# Altium schematic symbol library Analog_ADC.SchLib: 173 symbols (part 3 of 3)
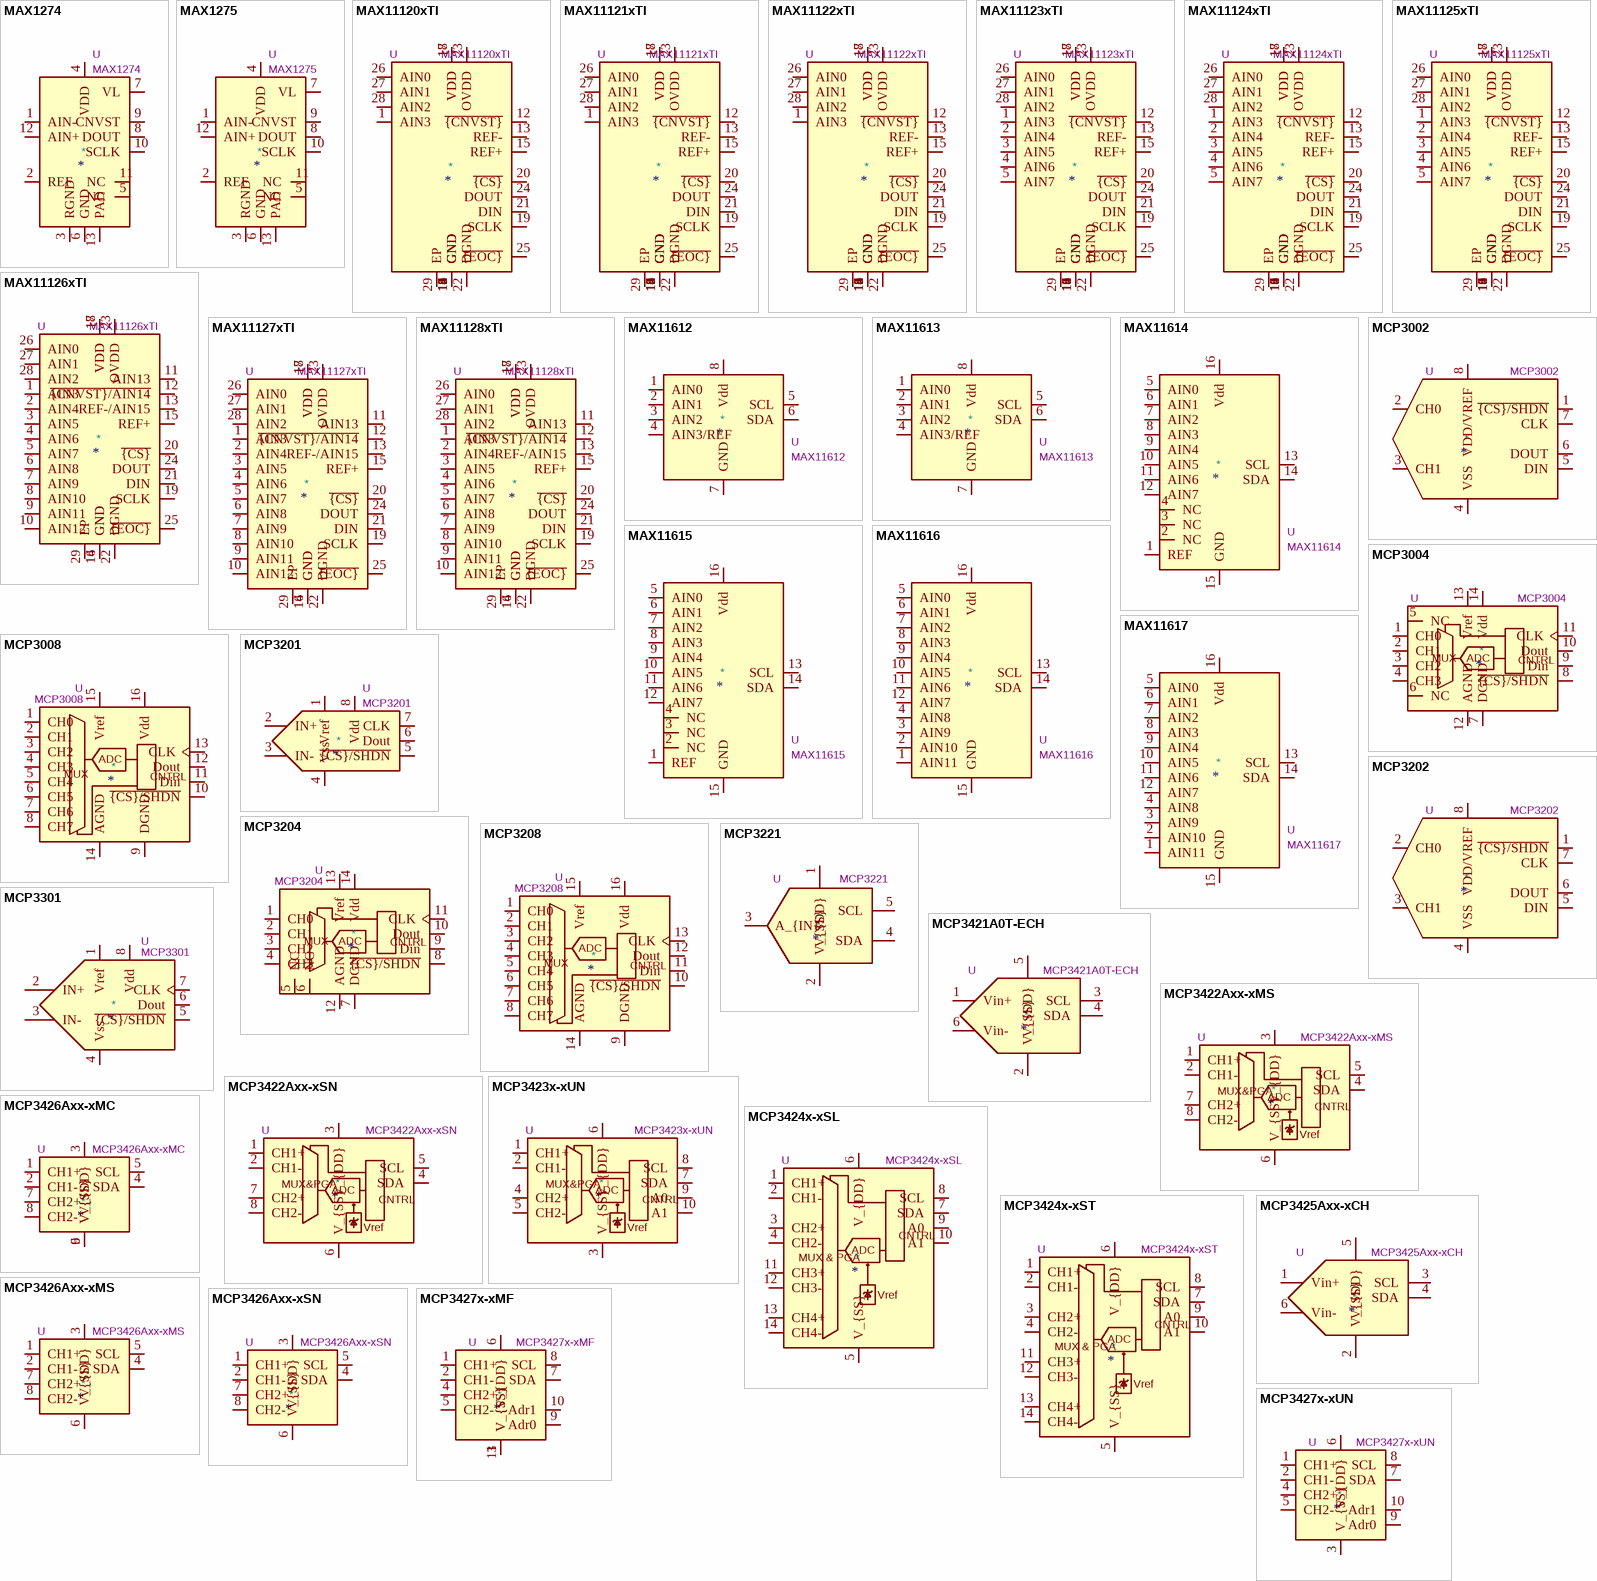
[diagram p9: symbols MAX1274 to MCP3427x-xUN]

## MCP3202
designator *  value MCP3202  Reference: U
A/D Converter, 12-Bit, 2-Channel, SPI Interface, 2.7V-5.5V; ki_keywords: 12bit ADC Reference Single Supply SPI 2ch; ki_fp_filters: DIP*W7.62mm** SOIC*3.9x4.9mm*P1.27mm* TSSOP*3x3mm*P0.65mm* MSOP*3x3mm*P0.65mm*; Datasheet: http://ww1.microchip.com/downloads/en/DeviceDoc/21034D.pdf; Description_: A/D Converter, 12-Bit, 2-Channel, SPI Interface, 2.7V-5.5V
pins: 1 ~{{CS}/SHDN}, 2 CH0, 3 CH1, 4 VSS, 5 DIN, 6 DOUT, 7 CLK, 8 VDD/VREF

## MCP3204
designator *  value MCP3204  Reference: U
A/D Converter, 12-Bit, 4-Channel, SPI Interface, 2.7V-5.5V; ki_keywords: 12bit ADC Reference Single Supply SPI 4ch; ki_fp_filters: SOIC*3.9x8.7mm*P1.27mm* DIP*W7.62mm* TSSOP*4.4x5mm*P0.65mm*; Datasheet: http://ww1.microchip.com/downloads/en/DeviceDoc/21298c.pdf; Description_: A/D Converter, 12-Bit, 4-Channel, SPI Interface, 2.7V-5.5V
pins: 1 CH0, 2 CH1, 3 CH2, 4 CH3, 5 NC, 6 NC, 7 DGND, 8 ~{{CS}/SHDN}, 9 Din, 10 Dout, 11 CLK, 12 AGND, 13 Vref, 14 Vdd
text: MUX; ADC; CNTRL

## MCP3208
designator *  value MCP3208  Reference: U
A/D Converter, 12-Bit, 8-Channel, SPI Interface , 2.7V-5.5V; ki_keywords: 12bit ADC Reference Single Supply SPI 8ch; ki_fp_filters: DIP*W7.62mm* SOIC*3.9x9.9mm*P1.27mm*; Datasheet: http://ww1.microchip.com/downloads/en/DeviceDoc/21298c.pdf; Description_: A/D Converter, 12-Bit, 8-Channel, SPI Interface , 2.7V-5.5V
pins: 1 CH0, 2 CH1, 3 CH2, 4 CH3, 5 CH4, 6 CH5, 7 CH6, 8 CH7, 9 DGND, 10 ~{{CS}/SHDN}, 11 Din, 12 Dout, 13 CLK, 14 AGND, 15 Vref, 16 Vdd
text: ADC; MUX; CNTRL

## MCP3221
designator *  value MCP3221  Reference: U
Single channel 12bit SAR Analog to Digital Converter, I2C Interface, SOT-23-5; ki_keywords: ADC 1ch; ki_fp_filters: SOT?23*; Footprint: Package_TO_SOT_SMD:SOT-23-5; Datasheet: https://ww1.microchip.com/downloads/en/devicedoc/20001732e.pdf; Description_: Single channel 12bit SAR Analog to Digital Converter, I2C Interface, SOT-23-5
pins: 1 V_{DD}, 2 V_{SS}, 3 A_{IN}, 4 SDA, 5 SCL

## MCP3301
designator *  value MCP3301  Reference: U
13-Bit Differential Input, Low Power A/D Converter with SPI Interface; ki_keywords: 13-Bit Differential ADC SPI  1ch; ki_fp_filters: DIP*W7.62mm* SOIC*3.9x4.9mm*P1.27mm*; Datasheet: http://ww1.microchip.com/downloads/en/DeviceDoc/21700D.pdf; Description_: 13-Bit Differential Input, Low Power A/D Converter with SPI Interface
pins: 1 Vref, 2 IN+, 3 IN-, 4 Vss, 5 ~{{CS}/SHDN}, 6 Dout, 7 CLK, 8 Vdd

## MCP3421A0T-ECH
designator *  value MCP3421A0T-ECH  Reference: U
Single Delta-Sigma 18bit Analog to Digital Converter, I2C Interface, SOT-23-6; ki_keywords: Sigma-Delta ADC Converter 18bit I2C 1ch; ki_fp_filters: SOT?23* SOT?23*; Datasheet: http://ww1.microchip.com/downloads/en/DeviceDoc/22003e.pdf; Description_: Single Delta-Sigma 18bit Analog to Digital Converter, I2C Interface, SOT-23-6
pins: 1 Vin+, 2 V_{SS}, 3 SCL, 4 SDA, 5 V_{DD}, 6 Vin-

## MCP3422Axx-xMS
designator *  value MCP3422Axx-xMS  Reference: U
2-Channel, 18-Bit, Delta-Sigma AD-Converter, I²C Interface, Reference, MSOP-8; ki_keywords: 18-Bit ADC I2C Delta-Sigma-ADC Delta-Sigma-ADC Reference 2ch; ki_fp_filters: MSOP*3x3mm*P0.65mm*; Footprint: Package_SO:MSOP-8_3x3mm_P0.65mm; Datasheet: http://ww1.microchip.com/downloads/en/DeviceDoc/22088c.pdf; Description_: 2-Channel, 18-Bit, Delta-Sigma AD-Converter, I²C Interface, Reference, MSOP-8
pins: 1 CH1+, 2 CH1-, 3 V_{DD}, 4 SDA, 5 SCL, 6 V_{SS}, 7 CH2+, 8 CH2-
text: MUX&PGA; ADC; CNTRL; Vref

## MCP3422Axx-xSN
designator *  value MCP3422Axx-xSN  Reference: U
2-Channel, 18-Bit, Delta-Sigma AD-Converter, I²C Interface, Reference, SOIC-8; ki_keywords: 18-Bit ADC I2C Delta-Sigma-ADC Delta-Sigma-ADC Reference 2ch; ki_fp_filters: SOIC*3.9x4.9mm*P1.27mm*; Footprint: Package_SO:SOIC-8_3.9x4.9mm_P1.27mm; Datasheet: http://ww1.microchip.com/downloads/en/DeviceDoc/22088c.pdf; Description_: 2-Channel, 18-Bit, Delta-Sigma AD-Converter, I²C Interface, Reference, SOIC-8
pins: 1 CH1+, 2 CH1-, 3 V_{DD}, 4 SDA, 5 SCL, 6 V_{SS}, 7 CH2+, 8 CH2-
text: MUX&PGA; ADC; CNTRL; Vref

## MCP3423x-xUN
designator *  value MCP3423x-xUN  Reference: U
2-Channel, 18-Bit, Delta-Sigma AD-Converter, I²C Interface, Reference, MSOP-10; ki_keywords: 18-Bit ADC I2C Delta-Sigma-ADC Delta-Sigma-ADC Reference 2ch; ki_fp_filters: MSOP*3x3mm*P0.5mm*; Footprint: Package_SO:MSOP-10_3x3mm_P0.5mm; Datasheet: http://ww1.microchip.com/downloads/en/DeviceDoc/22088c.pdf; Description_: 2-Channel, 18-Bit, Delta-Sigma AD-Converter, I²C Interface, Reference, MSOP-10
pins: 1 CH1+, 2 CH1-, 3 V_{SS}, 4 CH2+, 5 CH2-, 6 V_{DD}, 7 SDA, 8 SCL, 9 A0, 10 A1
text: MUX&PGA; ADC; CNTRL; Vref

## MCP3424x-xSL
designator *  value MCP3424x-xSL  Reference: U
4-Channel, 18-Bit, Delta-Sigma AD-Converter, I²C Interface, Reference, SOIC-14; ki_keywords: 18-Bit ADC I2C IIC I²C Delta-Sigma-ADC Reference 4ch quadruple; ki_fp_filters: SOIC*3.9x8.7mm*P1.27mm*; Footprint: Package_SO:SOIC-14_3.9x8.7mm_P1.27mm; Datasheet: http://ww1.microchip.com/downloads/en/DeviceDoc/22088c.pdf; Description_: 4-Channel, 18-Bit, Delta-Sigma AD-Converter, I²C Interface, Reference, SOIC-14
pins: 1 CH1+, 2 CH1-, 3 CH2+, 4 CH2-, 5 V_{SS}, 6 V_{DD}, 7 SDA, 8 SCL, 9 A0, 10 A1, 11 CH3+, 12 CH3-, 13 CH4+, 14 CH4-
text: CNTRL; ADC; MUX & PGA; Vref

## MCP3424x-xST
designator *  value MCP3424x-xST  Reference: U
4-Channel, 18-Bit, Delta-Sigma AD-Converter, I²C Interface, Reference, TSSOP-14; ki_keywords: 18-Bit ADC I2C Delta-Sigma-ADC Reference 4ch quadruple; ki_fp_filters: TSSOP*4.4x5mm*P0.65mm*; Footprint: Package_SO:TSSOP-14_4.4x5mm_P0.65mm; Datasheet: http://ww1.microchip.com/downloads/en/DeviceDoc/22088c.pdf; Description_: 4-Channel, 18-Bit, Delta-Sigma AD-Converter, I²C Interface, Reference, TSSOP-14
pins: 1 CH1+, 2 CH1-, 3 CH2+, 4 CH2-, 5 V_{SS}, 6 V_{DD}, 7 SDA, 8 SCL, 9 A0, 10 A1, 11 CH3+, 12 CH3-, 13 CH4+, 14 CH4-
text: CNTRL; ADC; MUX & PGA; Vref

## MCP3425Axx-xCH
designator *  value MCP3425Axx-xCH  Reference: U
Single Delta-Sigma 16bit Analog to Digital Converter, I2C Interface, SOT-23-6; ki_keywords: Sigma-Delta ADC Converter 16bit I2C  1ch; ki_fp_filters: SOT?23*; Footprint: Package_TO_SOT_SMD:SOT-23-6; Datasheet: http://ww1.microchip.com/downloads/en/DeviceDoc/22072b.pdf; Description_: Single Delta-Sigma 16bit Analog to Digital Converter, I2C Interface, SOT-23-6
pins: 1 Vin+, 2 V_{SS}, 3 SCL, 4 SDA, 5 V_{DD}, 6 Vin-

## MCP3426Axx-xMC
designator *  value MCP3426Axx-xMC  Reference: U
16-Bit, Multi-Channel ΔΣ Analog-to-Digital Converter with I2C Interface and On-Board Reference, DFN-8; ki_keywords: adc 2ch 16bit i2c; ki_fp_filters: DFN*3x2mm*P0.5mm*; Footprint: Package_DFN_QFN:DFN-8-1EP_3x2mm_P0.5mm_EP1.75x1.45mm; Datasheet: http://ww1.microchip.com/downloads/en/DeviceDoc/22226a.pdf; Description_: 16-Bit, Multi-Channel ΔΣ Analog-to-Digital Converter with I2C Interface and On-Board Reference, DFN-8
pins: 1 CH1+, 2 CH1-, 3 V_{DD}, 4 SDA, 5 SCL, 6 V_{SS}, 7 CH2+, 8 CH2-, 9 V_{SS}

## MCP3426Axx-xMS
designator *  value MCP3426Axx-xMS  Reference: U
16-Bit, Multi-Channel ΔΣ Analog-to-Digital Converter with I2C Interface and On-Board Reference, MSOP-8; ki_keywords: adc 2ch 16bit i2c; ki_fp_filters: MSOP*3x3mm*P0.65mm*; Footprint: Package_SO:MSOP-8_3x3mm_P0.65mm; Datasheet: http://ww1.microchip.com/downloads/en/DeviceDoc/22226a.pdf; Description_: 16-Bit, Multi-Channel ΔΣ Analog-to-Digital Converter with I2C Interface and On-Board Reference, MSOP-8
pins: 1 CH1+, 2 CH1-, 3 V_{DD}, 4 SDA, 5 SCL, 6 V_{SS}, 7 CH2+, 8 CH2-

## MCP3426Axx-xSN
designator *  value MCP3426Axx-xSN  Reference: U
16-Bit, Multi-Channel ΔΣ Analog-to-Digital Converter with I2C Interface and On-Board Reference, SOIC-8; ki_keywords: adc 2ch 16bit i2c; ki_fp_filters: SOIC*3.9x4.9mm*P1.27mm*; Footprint: Package_SO:SOIC-8_3.9x4.9mm_P1.27mm; Datasheet: http://ww1.microchip.com/downloads/en/DeviceDoc/22226a.pdf; Description_: 16-Bit, Multi-Channel ΔΣ Analog-to-Digital Converter with I2C Interface and On-Board Reference, SOIC-8
pins: 1 CH1+, 2 CH1-, 3 V_{DD}, 4 SDA, 5 SCL, 6 V_{SS}, 7 CH2+, 8 CH2-

## MCP3427x-xMF
designator *  value MCP3427x-xMF  Reference: U
16-Bit, Multi-Channel ΔΣ Analog-to-Digital Converter with I2C Interface and On-Board Reference, DFN-10; ki_keywords: adc 2ch 16bit i2c; ki_fp_filters: DFN*3x3mm*P0.5mm*; Footprint: Package_DFN_QFN:DFN-8-1EP_3x3mm_P0.5mm_EP1.66x2.38mm; Datasheet: http://ww1.microchip.com/downloads/en/DeviceDoc/22226a.pdf; Description_: 16-Bit, Multi-Channel ΔΣ Analog-to-Digital Converter with I2C Interface and On-Board Reference, DFN-10
pins: 1 CH1+, 2 CH1-, 3 V_{SS}, 4 CH2+, 5 CH2-, 6 V_{DD}, 7 SDA, 8 SCL, 9 Adr0, 10 Adr1, 11 V_{SS}

## MCP3427x-xUN
designator *  value MCP3427x-xUN  Reference: U
16-Bit, Multi-Channel ΔΣ Analog-to-Digital Converter with I2C Interface and On-Board Reference, MSOP-10; ki_keywords: adc 2ch 16bit i2c; ki_fp_filters: MSOP*3x3mm*P0.5mm*; Footprint: Package_SO:MSOP-10_3x3mm_P0.5mm; Datasheet: http://ww1.microchip.com/downloads/en/DeviceDoc/22226a.pdf; Description_: 16-Bit, Multi-Channel ΔΣ Analog-to-Digital Converter with I2C Interface and On-Board Reference, MSOP-10
pins: 1 CH1+, 2 CH1-, 3 V_{SS}, 4 CH2+, 5 CH2-, 6 V_{DD}, 7 SDA, 8 SCL, 9 Adr0, 10 Adr1

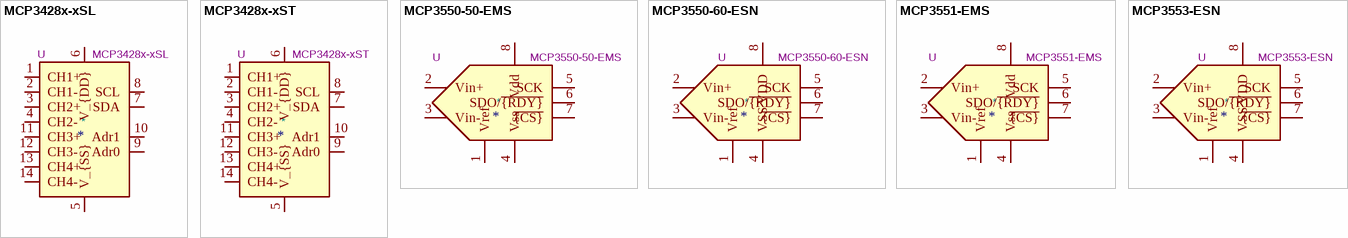
[diagram p7: symbols MCP3428x-xSL to MCP3553-ESN]

## MCP3428x-xSL
designator *  value MCP3428x-xSL  Reference: U
16-Bit, Multi-Channel ΔΣ Analog-to-Digital Converter with I2C Interface and On-Board Reference, SOIC-14; ki_keywords: adc 4ch 16bit i2c; ki_fp_filters: SOIC*3.9x8.7mm*P1.27mm*; Footprint: Package_SO:SOIC-14_3.9x8.7mm_P1.27mm; Datasheet: http://ww1.microchip.com/downloads/en/DeviceDoc/22226a.pdf; Description_: 16-Bit, Multi-Channel ΔΣ Analog-to-Digital Converter with I2C Interface and On-Board Reference, SOIC-14
pins: 1 CH1+, 2 CH1-, 3 CH2+, 4 CH2-, 5 V_{SS}, 6 V_{DD}, 7 SDA, 8 SCL, 9 Adr0, 10 Adr1, 11 CH3+, 12 CH3-, 13 CH4+, 14 CH4-

## MCP3428x-xST
designator *  value MCP3428x-xST  Reference: U
16-Bit, Multi-Channel ΔΣ Analog-to-Digital Converter with I2C Interface and On-Board Reference, TSSOP-14; ki_keywords: adc 4ch 16bit i2c; ki_fp_filters: TSSOP*4.4x5mm*P0.65mm*; Footprint: Package_SO:TSSOP-14_4.4x5mm_P0.65mm; Datasheet: http://ww1.microchip.com/downloads/en/DeviceDoc/22226a.pdf; Description_: 16-Bit, Multi-Channel ΔΣ Analog-to-Digital Converter with I2C Interface and On-Board Reference, TSSOP-14
pins: 1 CH1+, 2 CH1-, 3 CH2+, 4 CH2-, 5 V_{SS}, 6 V_{DD}, 7 SDA, 8 SCL, 9 Adr0, 10 Adr1, 11 CH3+, 12 CH3-, 13 CH4+, 14 CH4-

## MCP3550-50-EMS
designator *  value MCP3550-50-EMS  Reference: U
Single Delta-Sigma 22bit Analog to Digital Converter, SPI Interface, 50Hz Rejection, MSOP-8; ki_keywords: Sigma-Delta ADC Converter 22bit SPI 1ch; ki_fp_filters: MSOP*; Datasheet: http://ww1.microchip.com/downloads/en/devicedoc/21950c.pdf; Description_: Single Delta-Sigma 22bit Analog to Digital Converter, SPI Interface, 50Hz Rejection, MSOP-8
pins: 1 Vref, 2 Vin+, 3 Vin-, 4 Vss, 5 SCK, 6 SDO/~{{RDY}}, 7 ~{{CS}}, 8 Vdd

## MCP3550-60-ESN
designator *  value MCP3550-60-ESN  Reference: U
Single Delta-Sigma 22bit Analog to Digital Converter, SPI Interface, 60Hz Rejection, MSOP-8; ki_keywords: Sigma-Delta ADC Converter 22bit SPI 1ch; ki_fp_filters: SO*; Datasheet: http://ww1.microchip.com/downloads/en/devicedoc/21950c.pdf; Description_: Single Delta-Sigma 22bit Analog to Digital Converter, SPI Interface, 60Hz Rejection, MSOP-8
pins: 1 Vref, 2 Vin+, 3 Vin-, 4 VSS, 5 SCK, 6 SDO/~{{RDY}}, 7 ~{{CS}}, 8 VDD

## MCP3551-EMS
designator *  value MCP3551-EMS  Reference: U
Single Delta-Sigma 22bit Analog to Digital Converter, SPI Interface, MSOP-8; ki_keywords: Sigma-Delta ADC Converter 22bit SPI 1ch; ki_fp_filters: MSOP*; Datasheet: http://ww1.microchip.com/downloads/en/devicedoc/21950c.pdf; Description_: Single Delta-Sigma 22bit Analog to Digital Converter, SPI Interface, MSOP-8
pins: 1 Vref, 2 Vin+, 3 Vin-, 4 Vss, 5 SCK, 6 SDO/~{{RDY}}, 7 ~{{CS}}, 8 Vdd

## MCP3553-ESN
designator *  value MCP3553-ESN  Reference: U
Single Delta-Sigma 22bit Analog to Digital Converter, SPI Interface, MSOP-8; ki_keywords: Sigma-Delta ADC Converter 22bit SPI 1ch; ki_fp_filters: SO*; Datasheet: http://ww1.microchip.com/downloads/en/devicedoc/21950c.pdf; Description_: Single Delta-Sigma 22bit Analog to Digital Converter, SPI Interface, MSOP-8
pins: 1 Vref, 2 Vin+, 3 Vin-, 4 VSS, 5 SCK, 6 SDO/~{{RDY}}, 7 ~{{CS}}, 8 VDD